# Altium schematic symbol library AD8638ARZ.Schlib: 1 symbol
Pins are listed as number, name and electrical type; pins without a type are passive.

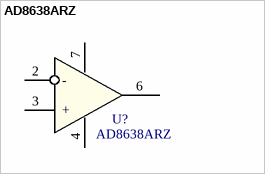
[diagram p0: symbol AD8638ARZ]

## AD8638ARZ
designator U?
Назначение: Операционный усилитель; Наименование: AD8638ARZ
footprint SO-8
pins: 2 -, 3 +, 4 Vss-, 6 Vout, 7 Vss+